# Altium footprint library Capacitor_SMD.PcbLib: 25 footprints (part 2 of 2)
Each footprint in its own frame and in the unit in brackets; x right, y up, seen from the top. Pads: shape width x height; smd on the part's side, far side on the other; paste and mask are expansions set on the pad; w line width, h text height; cw(c..) or ccw(c..) is an arc to the next point about the centre after c.
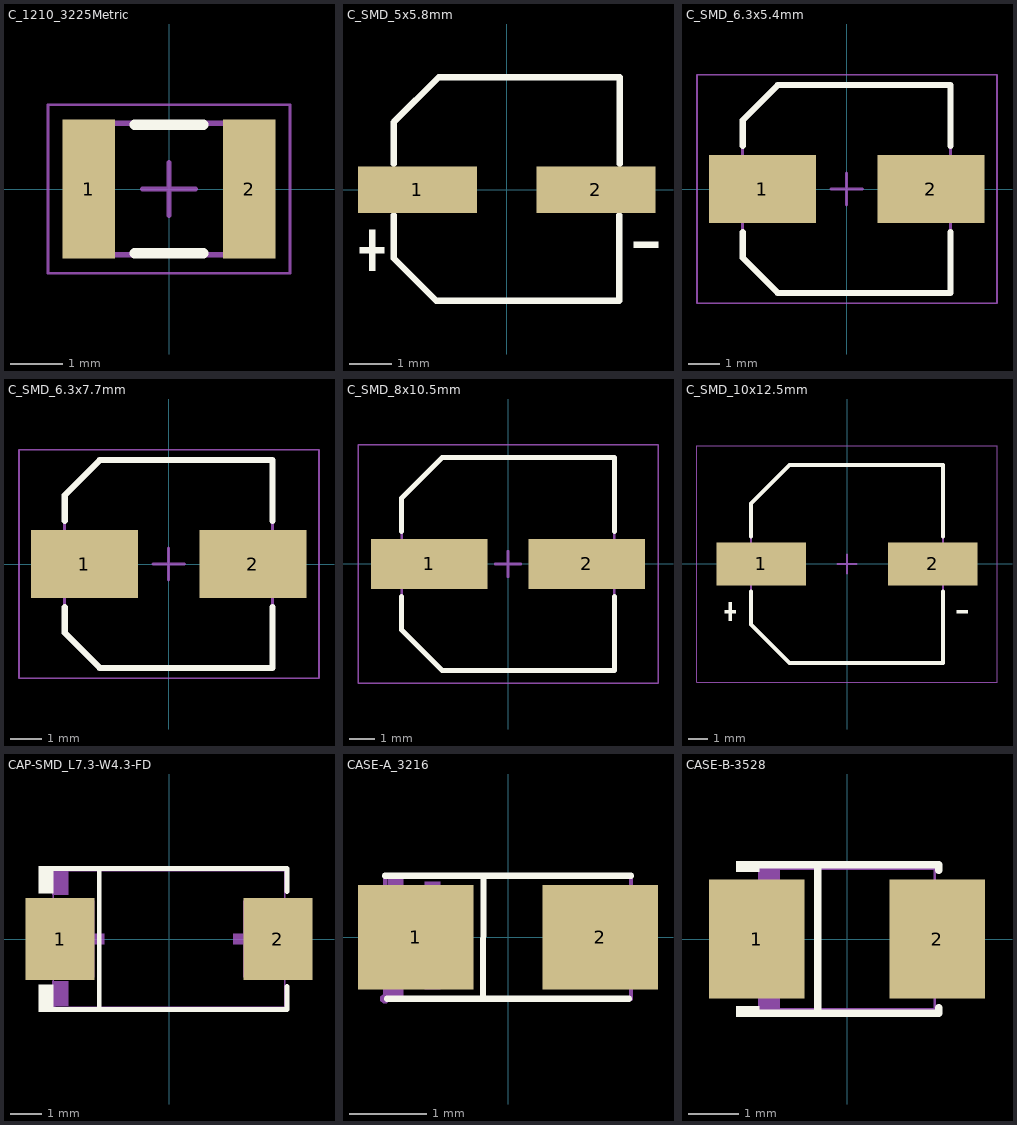
[diagram p1: the footprints below, top view; thin cyan lines are the x and y axes]

## C_1210_3225Metric [mm] "Chip Capacitor, 2-Leads, Body 3.20x2.50mm, IPC Medium Density"
height 1.6
pads (2):
  rect 1x2.65 smd: 1(-1.525,0) 2(1.525,0)
Top Overlay:
  lines w0.2: -0.65,-1.225 0.65,-1.225 ; -0.65,1.225 0.65,1.225
Mechanical 13:
  lines w0.1: -1.6,-1.25 1.6,-1.25 1.6,1.25 -1.6,1.25 -1.6,-1.25
Mechanical 15:
  lines w0.05: -2.3,-1.6 2.3,-1.6 2.3,1.6 -2.3,1.6 -2.3,-1.6
  lines w0.1: -0.5,0 0.5,0 ; 0,-0.5 0,0.5
3D body: height 1.6, standoff 0, extent 1.1,-1.25 1.6,1.25
3D body: height 1.6, standoff 0, extent -1.6,-1.25 -1.1,1.25
3D body: height 1.6, standoff 0, extent -1.1,-1.25 1.1,1.25

## C_SMD_5x5.8mm [mm]
pads (2):
  rect 2.8x1.1 smd: 1(-2.1,0) 2(2.1,0)
Top Overlay:
  region: -3.24,-0.949 -3.24,-1.909 -3.096,-1.909 -3.096,-0.949
  region: -3.456,-1.357 -3.456,-1.501 -2.88,-1.501 -2.88,-1.357
  region: 3.563,-1.225 3.563,-1.369 2.987,-1.369 2.987,-1.225
  lines w0.152: -2.659,-0.607 -2.659,-1.616 -1.656,-2.619 2.649,-2.619 2.649,-0.607 ; -2.659,0.607 -2.659,1.591 -1.599,2.649 2.659,2.649 2.659,0.607
Mechanical 15:
  region: -2.04,0.48 -2.04,-0.48 -1.896,-0.48 -1.896,0.48
  region: -2.256,0.072 -2.256,-0.072 -1.68,-0.072 -1.68,0.072
  region: 2.256,0.072 2.256,-0.072 1.68,-0.072 1.68,0.072
3D body "User Library-CAP SMD SVP 5_0x5_9.STEP": height 5.9, standoff 0, extent -3,-2.65 3,2.65

## C_SMD_6.3x5.4mm [mm] "Aluminum Electrolytic Capacitor, Body 6.60x6.60x7.70mm, IPC Low Density"
height 7.7
pads (2):
  rect 3.4x2.15 smd: 1(-2.675,0) 2(2.675,0)
Top Overlay:
  lines w0.2: -3.3,-1.375 -3.3,-2.188 -2.188,-3.3 3.3,-3.3 3.3,-1.375 ; -3.3,1.375 -3.3,2.187 -2.188,3.3 3.3,3.3 3.3,1.375
Mechanical 13:
  lines w0.1: -3.3,-2.188 -2.188,-3.3 3.3,-3.3 3.3,3.3 -2.188,3.3 -3.3,2.187 -3.3,-2.188
Mechanical 15:
  lines w0.05: -4.75,-3.625 -4.75,3.625 4.775,3.625 4.775,-3.625 -4.75,-3.625
  lines w0.1: -0.5,0 0.5,0 ; 0,-0.5 0,0.5
3D body "CC1.stp": height 5.4, standoff 0, extent -3.9,-3.3 3.9,3.3

## C_SMD_6.3x7.7mm [mm] "Aluminum Electrolytic Capacitor, Body 6.60x6.60x7.70mm, IPC Low Density"
height 7.7
pads (2):
  rect 3.4x2.15 smd: 1(-2.675,0) 2(2.675,0)
Top Overlay:
  lines w0.2: -3.3,-1.375 -3.3,-2.188 -2.188,-3.3 3.3,-3.3 3.3,-1.375 ; -3.3,1.375 -3.3,2.187 -2.188,3.3 3.3,3.3 3.3,1.375
Mechanical 13:
  lines w0.1: -3.3,-2.188 -2.188,-3.3 3.3,-3.3 3.3,3.3 -2.188,3.3 -3.3,2.187 -3.3,-2.188
Mechanical 15:
  lines w0.05: -4.75,-3.625 -4.75,3.625 4.775,3.625 4.775,-3.625 -4.75,-3.625
  lines w0.1: -0.5,0 0.5,0 ; 0,-0.5 0,0.5
3D body "CAPAE7266X77M.step": height 7.7, standoff 0, extent -3.6,-3.3 3.6,3.3

## C_SMD_8x10.5mm [mm] "Aluminum Electrolytic Capacitor, Body 8.30x8.30x10.50mm, IPC Medium Density"
height 10.5
pads (2):
  rect 4.55x1.95 smd: 1(-3.075,0) 2(3.075,0)
Top Overlay:
  lines w0.2: -4.15,-1.275 -4.15,-2.563 -2.562,-4.15 4.15,-4.15 4.15,-1.275 ; -4.15,1.275 -4.15,2.562 -2.562,4.15 4.15,4.15 4.15,1.275
Mechanical 13:
  lines w0.1: -4.15,-2.563 -2.562,-4.15 4.15,-4.15 4.15,4.15 -2.562,4.15 -4.15,2.562 -4.15,-2.563
Mechanical 15:
  lines w0.05: -5.85,-4.65 -5.85,4.65 5.85,4.65 5.85,-4.65 -5.85,-4.65
  lines w0.1: -0.5,0 0.5,0 ; 0,-0.5 0,0.5
3D body "CAPAE8883X105N.step": height 10.5, standoff 0, extent -4.4,-4.15 4.4,4.15

## C_SMD_10x12.5mm [mm] "Aluminum Electrolytic Capacitor, Body 10.00x10.30x12.50mm, IPC Low Density"
height 12.5
pads (2):
  rect 4.65x2.25 smd: 1(-4.45,0) 2(4.45,0)
Top Overlay:
  region: -6.144,-2 -6.144,-2.96 -6,-2.96 -6,-2
  region: -6.36,-2.408 -6.36,-2.552 -5.784,-2.552 -5.784,-2.408
  region: 6.288,-2.408 6.288,-2.552 5.712,-2.552 5.712,-2.408
  lines w0.2: -5,-1.425 -5,-3.138 -2.988,-5.15 5,-5.15 5,-1.425 ; -5,1.425 -5,3.137 -2.988,5.15 5,5.15 5,1.425
Mechanical 13:
  lines w0.1: -5,-3.138 -2.988,-5.15 5,-5.15 5,5.15 -2.988,5.15 -5,3.137 -5,-3.138
Mechanical 15:
  lines w0.05: -7.8,-6.15 -7.8,6.15 7.8,6.15 7.8,-6.15 -7.8,-6.15
  lines w0.1: -0.5,0 0.5,0 ; 0,-0.5 0,0.5
3D body "CAPAE114103X125M.step": height 12.5, standoff 0, extent -5.7,-5.15 5.7,5.15

## CAP-SMD_L7.3-W4.3-FD [mm]
pads (2):
  rect 2.185x2.592 smd: 1(-3.437,0) 2(3.437,0)
Top Overlay:
  region: -3.653,2.302 -3.653,1.448 -4.11,1.448 -4.11,2.302
  region: -3.653,-2.302 -3.653,-1.448 -4.11,-1.448 -4.11,-2.302
  lines w0.152: -3.729,-2.226 3.724,-2.226 3.724,-1.499 ; -3.729,2.226 3.724,2.226 3.724,1.499 ; -2.199,-2.226 -2.199,2.226
Mechanical 6:
  region: -3.33,-0.161 -3.33,0.161 -2.04,0.161 -2.04,-0.161
  region: 3.325,-0.161 3.325,0.161 2.035,0.161 2.035,-0.161
  region: -2.846,1.075 -2.846,-1.075 -2.524,-1.075 -2.524,1.075
  region: -3.683,2.159 -3.175,2.159 -3.175,1.397 -3.683,1.397
  region: -3.683,-1.341 -3.175,-1.341 -3.175,-2.103 -3.683,-2.103
Mechanical 15:
  region: -3.593,-2.15 -3.593,-2.125 -3.628,-2.09 -3.677,-2.09 -3.713,-2.125 -3.713,-2.15 -3.713,-2.175 -3.677,-2.21 -3.628,-2.21 -3.593,-2.175 -3.593,-2.15
  region: 2.347,-1.2 2.347,1.2 3.647,1.2 3.647,-1.2
  region: -2.353,-1.2 -2.353,1.2 -3.653,1.2 -3.653,-1.2
  lines w0.051: -3.653,-2.15 -3.653,2.15 3.647,2.15 3.647,-2.15 -3.653,-2.15
3D body "C1.stp": height 4.25, standoff 0, extent -3.653,-2.15 3.647,2.15

## CASE-A_3216 [mm]
pads (2):
  rect 1.5x1.359 smd: 1(-1.2,0) 2(1.2,0)
Top Overlay:
  lines w0.08: -1.6,0.8 1.6,0.8 ; -1.575,-0.8 1.575,-0.8 ; -0.323,-0.8 -0.32,0.8
Mechanical 6:
  region: -1.081,0.724 -0.878,0.724 -0.878,-0.673 -1.081,-0.673
  region: -0.61,0.13 -0.61,-0.08 -1.45,-0.08 -1.45,0.13
  region: -1.363,-0.813 -1.567,-0.813 -1.567,-0.483 -1.363,-0.483
  region: -1.563,0.813 -1.36,0.813 -1.36,0.483 -1.563,0.483
  region: 1.501,0.13 1.501,-0.08 0.661,-0.08 0.661,0.13
Mechanical 15:
  region: 1.6,0.625 1.6,-0.575 0.8,-0.575 0.8,0.625
  region: -0.8,0.625 -0.8,-0.575 -1.6,-0.575 -1.6,0.625
  region: -1.54,-0.8 -1.541,-0.776 -1.576,-0.742 -1.624,-0.742 -1.659,-0.776 -1.66,-0.8 -1.659,-0.824 -1.624,-0.858 -1.576,-0.858 -1.541,-0.824 -1.54,-0.8
  lines w0.051: -1.6,-0.8 -1.6,0.8 1.6,0.8 1.6,-0.8 -1.6,-0.8
3D body "RGlt-C1-CASE-A_3216.step": height 1.7, standoff 0, extent -1.6,-0.8 1.6,0.8

## CASE-B-3528 [mil]
pads (2):
  rect 74.8x93.5 smd: 1(-70.8,0) 2(70.8,0)
Top Overlay:
  region: -68.9,61.1 -68.9,52.8 -86.9,52.8 -86.9,61.1
  region: -86.9,-61.1 -86.9,-52.8 -68.9,-52.8 -68.9,-61.1
  lines w6: -71.9,-58.1 71.9,-58.1 71.9,-53.8 ; -71.9,58.1 71.9,58.1 71.9,53.9 ; -22.8,-58.1 -22.8,58.1
Mechanical 4:
  region: -52.6,55.1 -52.6,27.6 -69.1,27.6 -69.1,55.1
  region: -52.6,-55.1 -52.6,-27.5 -69.1,-27.5 -69.1,-55.1
  region: -73.3,-27.5 -73.3,27.6 -81.5,27.6 -81.5,-27.5
  region: -60.9,-4.1 -60.9,4.2 -93.9,4.2 -93.9,-4.1
  region: 66.2,1.1 66.2,9.4 99.3,9.4 99.3,1.1
Top 3D Body:
  lines w2: -68.9,-55.1 68.9,-55.1 68.9,55.1 -68.9,55.1 -68.9,-55.1
Mechanical 9:
  region: -66.5,-55.1 -66.9,-56.4 -67.9,-57.2 -69.2,-57.4 -70.4,-56.9 -71.2,-55.8 -71.2,-54.4 -70.4,-53.3 -69.2,-52.8 -67.9,-53 -66.9,-53.8
Mechanical 10:
  region: 37.4,43.3 68.9,43.3 68.9,-43.3 37.4,-43.3
  region: -68.9,43.3 -37.4,43.3 -37.4,-43.3 -68.9,-43.3
3D body "1.step": height 78.74, standoff 0, extent -72.83,-51.18 72.83,51.18